# Altium schematic symbol library StepperMotorDriver.SchLib: 1 symbol
Pins are listed as number, name and electrical type; pins without a type are passive.

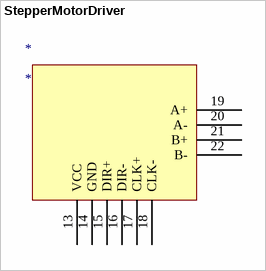
[diagram p0: symbol StepperMotorDriver]

## StepperMotorDriver
designator *
pins: 13 VCC, 14 GND, 15 DIR+, 16 DIR-, 17 CLK+, 18 CLK-, 19 A+, 20 A-, 21 B+, 22 B-